# Altium footprint library LED.PcbLib: 5 footprints
Each footprint in its own frame and in the unit in brackets; x right, y up, seen from the top. Pads: shape width x height; smd on the part's side, far side on the other; paste and mask are expansions set on the pad; w line width, h text height; cw(c..) or ccw(c..) is an arc to the next point about the centre after c.
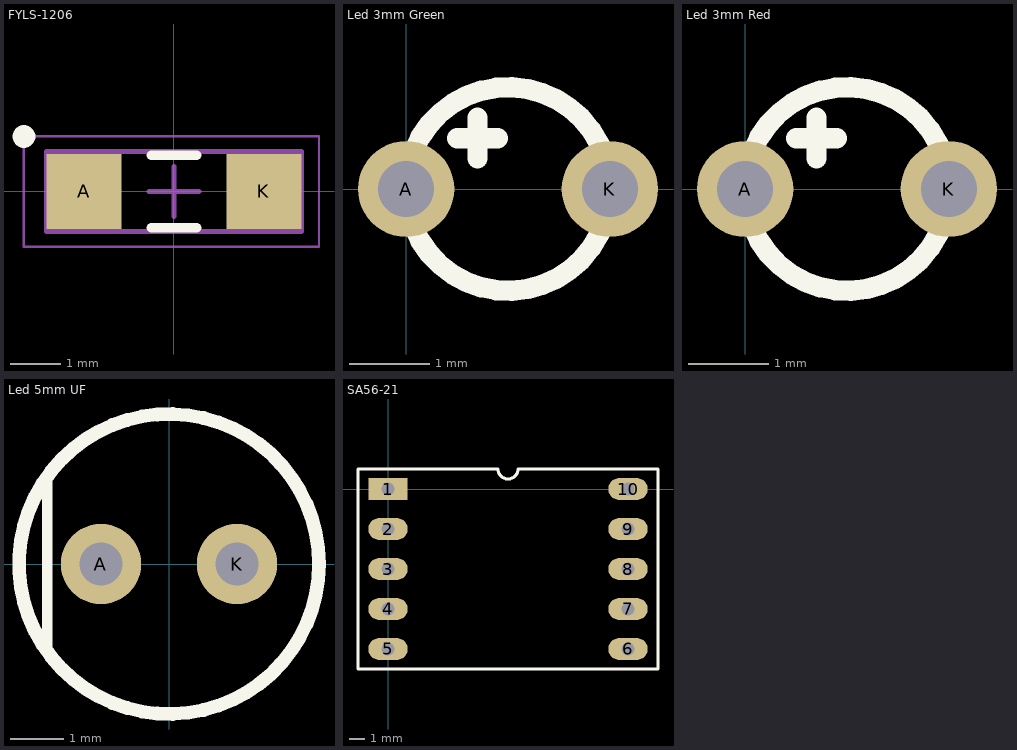
[diagram p0: the footprints below, top view; thin cyan lines are the x and y axes]

## FYLS-1206 [mm]
height 1.3
pads (2):
  rect 1.5x1.5 smd: A(-1.8,0) K(1.8,0)
Top Overlay:
  circle w0.254: c-3,1.1 r0.1
  lines w0.2: -0.45,-0.725 0.45,-0.725 ; -0.45,0.725 0.45,0.725
Mechanical 13:
  lines w0.1: -2.55,-0.8 -2.55,0.8 2.55,0.8 2.55,-0.8 -2.55,-0.8
Mechanical 15:
  lines w0.05: -3,-1.1 -3,1.1 2.9,1.1 2.9,-1.1 -3,-1.1
  lines w0.1: -0.5,0 0.5,0 ; 0,-0.5 0,0.5
3D body "User Library-FYLS-1206.step": height 1.1, standoff 0, extent -1.629,-0.794 1.571,0.806

## Led 3mm Green [mm]
height 1.27
pads (2):
  round 1.2 hole 0.7: A(0,0) K(2.54,0)
Top Overlay:
  circle w0.254: c1.27,0 r1.27
  lines w0.254: 0.635,0.635 1.143,0.635 ; 0.889,0.381 0.889,0.889
3D body "User Library-LED-D3G.step": height 9.1, standoff -2, extent -0.397,-2 3.27,2

## Led 3mm Red [mm]
height 0.127
pads (2):
  round 1.2 hole 0.7: A(0,0) K(2.54,0)
Top Overlay:
  circle w0.254: c1.27,0 r1.27
  lines w0.254: 0.635,0.635 1.143,0.635 ; 0.889,0.381 0.889,0.889
3D body "User Library-LED-D3R.step": height 9.1, standoff -2, extent -0.396,-2 3.27,2

## Led 5mm UF [mm]
pads (2):
  round 1.5 hole 0.8: A(-1.27,0) K(1.27,0)
Top Overlay:
  circle w0.254: c0,0 r2.8
  lines w0.2: -2.27,-1.6 -2.27,1.6
3D body "LED5MM_UF.STEP": height 8.8, standoff -3.1, extent -2.95,-2.95 2.95,2.95

## SA56-21 [mm]
pads (10):
  rect 2.5x1.4 hole 0.8: 1(0,0)
  oval 2.5x1.4 hole 0.8: 2(0,-2.54) 3(0,-5.08) 4(0,-7.62) 5(0,-10.16) 6(15.24,-10.16) 7(15.24,-7.62) 8(15.24,-5.08) 9(15.24,-2.54) 10(15.24,0)
Top Overlay:
  lines w0.2: -1.905,-11.43 17.145,-11.43 17.145,1.27 8.255,1.27 cw(c7.62,1.27) 6.985,1.27 -1.905,1.27 -1.905,-11.43
3D body "User Library-King Bright SA-SC56-21.step": height 10, standoff -2, extent -1.905,-11.43 17.145,1.27